# Altium footprint library STUSB1600AQTR.PcbLib: 3 footprints
Each footprint in its own frame and in the unit in brackets; x right, y up, seen from the top. Pads: shape width x height; smd on the part's side, far side on the other; paste and mask are expansions set on the pad; w line width, h text height; cw(c..) or ccw(c..) is an arc to the next point about the centre after c.
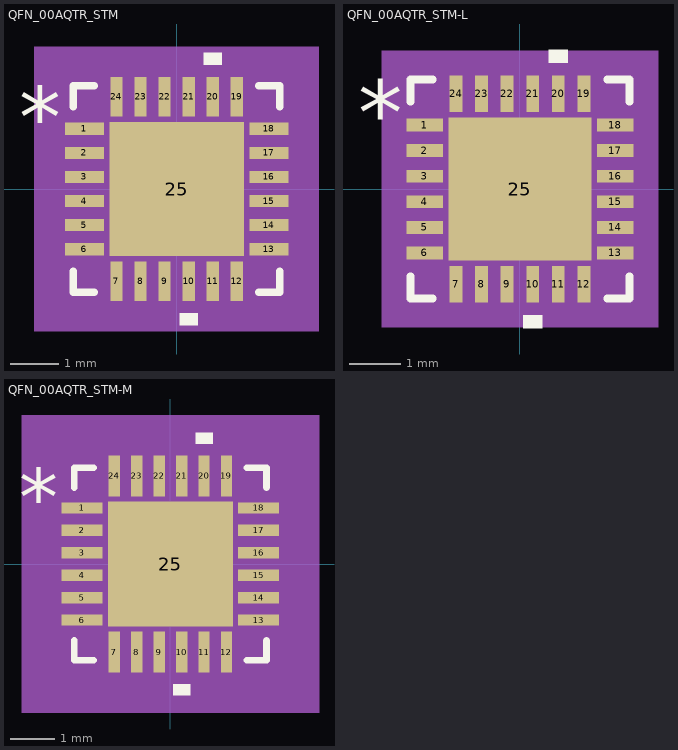
[diagram p0: the footprints below, top view; thin cyan lines are the x and y axes]

## QFN_00AQTR_STM [mil]
pads (25):
  rect 32x10 smd paste+0 mask+0: 1(-75.5,49.23) 2(-75.5,29.54) 3(-75.5,9.85) 4(-75.5,-9.85) 5(-75.5,-29.54) 6(-75.5,-49.23) 13(75.5,-49.23) 14(75.5,-29.54) 15(75.5,-9.85) 16(75.5,9.85) 17(75.5,29.54) 18(75.5,49.23)
  rect 10x32 smd paste+0 mask+0: 7(-49.23,-75.5) 8(-29.54,-75.5) 9(-9.85,-75.5) 10(9.85,-75.5) 11(29.54,-75.5) 12(49.23,-75.5) 19(49.23,75.5) 20(29.54,75.5) 21(9.85,75.5) 22(-9.85,75.5) 23(-29.54,75.5) 24(-49.23,75.5)
  rect 110x110 smd paste-54.5 mask+0: 25(0,0)
Top Overlay:
  region: 17.34,-101.5 2.35,-101.5 2.35,-111.5 17.34,-111.5
  region: 37.03,101.5 22.04,101.5 22.04,111.5 37.03,111.5
  lines w6: -84.5,-67.33 -84.5,-84.5 -67.33,-84.5 ; -84.5,67.33 -84.5,84.5 -67.33,84.5 ; 67.33,-84.5 84.5,-84.5 84.5,-67.33 ; 67.33,84.5 84.5,84.5 84.5,67.33
  text "*" at -129,34.07 h50
Top Paste:
  region: -3.94,51.06 -51.06,51.06 -51.06,3.94 -3.94,3.94
  region: -3.94,-3.94 -51.06,-3.94 -51.06,-51.06 -3.94,-51.06
  region: 51.06,51.06 3.94,51.06 3.94,3.94 51.06,3.94
  region: 51.06,-3.94 3.94,-3.94 3.94,-51.06 51.06,-51.06
Mechanical 5:
  region: 116.5,-116.5 -116.5,-116.5 -116.5,116.5 116.5,116.5
Mechanical 13:
  lines w1: -79.5,29.5 -29.5,79.5 ; -79.5,-79.5 79.5,-79.5 ; -79.5,-79.5 -79.5,79.5 ; -79.5,-79.5 -79.5,-79.5 ; -79.5,-55.23 -79.5,-43.23 ; -79.5,-55.23 -79.5,-43.23 ; -79.5,-55.23 -79.5,-55.23 ; -79.5,-43.23 -79.5,-43.23 ; -79.5,-35.53 -79.5,-23.54 ; -79.5,-35.53 -79.5,-23.54 ; -79.5,-35.53 -79.5,-35.53 ; -79.5,-23.54 -79.5,-23.54 ; -79.5,-15.85 -79.5,-3.85 ; -79.5,-15.85 -79.5,-3.85 ; -79.5,-15.85 -79.5,-15.85 ; -79.5,-3.85 -79.5,-3.85 ; -79.5,3.85 -79.5,15.85 ; -79.5,3.85 -79.5,15.85 ; -79.5,3.85 -79.5,3.85 ; -79.5,15.85 -79.5,15.85 ; -79.5,23.54 -79.5,35.53 ; -79.5,23.54 -79.5,35.53 ; -79.5,23.54 -79.5,23.54 ; -79.5,35.53 -79.5,35.53 ; -79.5,43.23 -79.5,55.23 ; -79.5,43.23 -79.5,55.23 ; -79.5,43.23 -79.5,43.23 ; -79.5,55.23 -79.5,55.23 ; -79.5,79.5 79.5,79.5 ; -79.5,79.5 -79.5,79.5 ; -55.23,-79.5 -43.23,-79.5 ; -55.23,-79.5 -55.23,-79.5 ; -55.23,-79.5 -43.23,-79.5 ; -55.23,79.5 -43.23,79.5 ; -55.23,79.5 -43.23,79.5 ; -55.23,79.5 -55.23,79.5 ; -43.23,-79.5 -43.23,-79.5 ; -43.23,79.5 -43.23,79.5 ; -35.53,-79.5 -23.54,-79.5 ; -35.53,-79.5 -35.53,-79.5 ; -35.53,-79.5 -23.54,-79.5 ; -35.53,79.5 -23.54,79.5 ; -35.53,79.5 -23.54,79.5 ; -35.53,79.5 -35.53,79.5 ; -23.54,-79.5 -23.54,-79.5 ; -23.54,79.5 -23.54,79.5 ; -15.85,-79.5 -3.85,-79.5 ; -15.85,-79.5 -15.85,-79.5 ; -15.85,-79.5 -3.85,-79.5 ; -15.85,79.5 -3.85,79.5 ; -15.85,79.5 -3.85,79.5 ; -15.85,79.5 -15.85,79.5 ; -3.85,-79.5 -3.85,-79.5 ; -3.85,79.5 -3.85,79.5 ; 3.85,-79.5 15.85,-79.5 ; 3.85,-79.5 3.85,-79.5 ; 3.85,-79.5 15.85,-79.5 ; 3.85,79.5 15.85,79.5 ; 3.85,79.5 15.85,79.5 ; 3.85,79.5 3.85,79.5 ; 15.85,-79.5 15.85,-79.5 ; 15.85,79.5 15.85,79.5 ; 23.54,-79.5 35.53,-79.5 ; 23.54,-79.5 23.54,-79.5 ; 23.54,-79.5 35.53,-79.5 ; 23.54,79.5 35.53,79.5 ; 23.54,79.5 35.53,79.5 ; 23.54,79.5 23.54,79.5 ; 35.53,-79.5 35.53,-79.5 ; 35.53,79.5 35.53,79.5 ; 43.23,-79.5 55.23,-79.5 ; 43.23,-79.5 43.23,-79.5 ; 43.23,-79.5 55.23,-79.5 ; 43.23,79.5 55.23,79.5 ; 43.23,79.5 55.23,79.5 ; 43.23,79.5 43.23,79.5 ; 55.23,-79.5 55.23,-79.5 ; 55.23,79.5 55.23,79.5 ; 79.5,-79.5 79.5,-79.5 ; 79.5,-79.5 79.5,79.5 ; 79.5,-55.23 79.5,-43.23 ; 79.5,-55.23 79.5,-55.23 ; 79.5,-55.23 79.5,-43.23 ; 79.5,-43.23 79.5,-43.23 ; 79.5,-35.53 79.5,-23.54 ; 79.5,-35.53 79.5,-35.53 ; 79.5,-35.53 79.5,-23.54 ; 79.5,-23.54 79.5,-23.54 ; 79.5,-15.85 79.5,-3.85 ; 79.5,-15.85 79.5,-15.85 ; 79.5,-15.85 79.5,-3.85 ; 79.5,-3.85 79.5,-3.85 ; 79.5,3.85 79.5,15.85 ; 79.5,3.85 79.5,3.85 ; 79.5,3.85 79.5,15.85 ; 79.5,15.85 79.5,15.85 ; 79.5,23.54 79.5,35.53 ; 79.5,23.54 79.5,23.54 ; 79.5,23.54 79.5,35.53 ; 79.5,35.53 79.5,35.53 ; 79.5,43.23 79.5,55.23 ; 79.5,43.23 79.5,43.23 ; 79.5,43.23 79.5,55.23 ; 79.5,55.23 79.5,55.23 ; 79.5,79.5 79.5,79.5
  text "*" at -72,34.07 h50
Mechanical 15:
  region: -64.22,-89.5 -89.5,-89.5 -89.5,-64.22 -101.5,-64.22 -101.5,64.22 -89.5,64.22 -89.5,89.5 -64.22,89.5 -64.22,101.5 64.22,101.5 64.22,89.5 89.5,89.5 89.5,64.22 101.5,64.22 101.5,-64.22 89.5,-64.22 89.5,-89.5 64.22,-89.5 64.22,-101.5 -64.22,-101.5
  lines w6: -101.5,-64.22 -89.5,-64.22 -89.5,-89.5 -64.22,-89.5 -64.22,-101.5 64.22,-101.5 64.22,-89.5 89.5,-89.5 89.5,-64.22 101.5,-64.22 101.5,64.22 89.5,64.22 89.5,89.5 64.22,89.5 64.22,101.5 -64.22,101.5 -64.22,89.5 -89.5,89.5 -89.5,64.22 -101.5,64.22 -101.5,-64.22
3D body "QFN_00AQTR_STM.step": height 39.09, standoff 0, extent -79.49,-79.49 79.49,79.49

## QFN_00AQTR_STM-L [mil]
pads (25):
  rect 28x10 smd paste+0 mask+0: 1(-73.5,49.23) 2(-73.5,29.54) 3(-73.5,9.85) 4(-73.5,-9.85) 5(-73.5,-29.54) 6(-73.5,-49.23) 13(73.5,-49.23) 14(73.5,-29.54) 15(73.5,-9.85) 16(73.5,9.85) 17(73.5,29.54) 18(73.5,49.23)
  rect 10x28 smd paste+0 mask+0: 7(-49.23,-73.5) 8(-29.54,-73.5) 9(-9.85,-73.5) 10(9.85,-73.5) 11(29.54,-73.5) 12(49.23,-73.5) 19(49.23,73.5) 20(29.54,73.5) 21(9.85,73.5) 22(-9.85,73.5) 23(-29.54,73.5) 24(-49.23,73.5)
  rect 110x110 smd paste-54.5 mask+0: 25(0,0)
Top Overlay:
  region: 17.34,-97.5 2.35,-97.5 2.35,-107.5 17.34,-107.5
  region: 37.03,97.5 22.04,97.5 22.04,107.5 37.03,107.5
  lines w6: -84.5,-67.33 -84.5,-84.5 -67.33,-84.5 ; -84.5,67.33 -84.5,84.5 -67.33,84.5 ; 67.33,-84.5 84.5,-84.5 84.5,-67.33 ; 67.33,84.5 84.5,84.5 84.5,67.33
  text "*" at -125,34.07 h50
Top Paste:
  region: -3.94,51.06 -51.06,51.06 -51.06,3.94 -3.94,3.94
  region: -3.94,-3.94 -51.06,-3.94 -51.06,-51.06 -3.94,-51.06
  region: 51.06,51.06 3.94,51.06 3.94,3.94 51.06,3.94
  region: 51.06,-3.94 3.94,-3.94 3.94,-51.06 51.06,-51.06
Mechanical 5:
  region: 106.5,-106.5 -106.5,-106.5 -106.5,106.5 106.5,106.5
Mechanical 13:
  lines w1: -79.5,29.5 -29.5,79.5 ; -79.5,-79.5 79.5,-79.5 ; -79.5,-79.5 -79.5,79.5 ; -79.5,-79.5 -79.5,-79.5 ; -79.5,-55.23 -79.5,-43.23 ; -79.5,-55.23 -79.5,-43.23 ; -79.5,-55.23 -79.5,-55.23 ; -79.5,-43.23 -79.5,-43.23 ; -79.5,-35.53 -79.5,-23.54 ; -79.5,-35.53 -79.5,-23.54 ; -79.5,-35.53 -79.5,-35.53 ; -79.5,-23.54 -79.5,-23.54 ; -79.5,-15.85 -79.5,-3.85 ; -79.5,-15.85 -79.5,-3.85 ; -79.5,-15.85 -79.5,-15.85 ; -79.5,-3.85 -79.5,-3.85 ; -79.5,3.85 -79.5,15.85 ; -79.5,3.85 -79.5,15.85 ; -79.5,3.85 -79.5,3.85 ; -79.5,15.85 -79.5,15.85 ; -79.5,23.54 -79.5,35.53 ; -79.5,23.54 -79.5,35.53 ; -79.5,23.54 -79.5,23.54 ; -79.5,35.53 -79.5,35.53 ; -79.5,43.23 -79.5,55.23 ; -79.5,43.23 -79.5,55.23 ; -79.5,43.23 -79.5,43.23 ; -79.5,55.23 -79.5,55.23 ; -79.5,79.5 79.5,79.5 ; -79.5,79.5 -79.5,79.5 ; -55.23,-79.5 -43.23,-79.5 ; -55.23,-79.5 -55.23,-79.5 ; -55.23,-79.5 -43.23,-79.5 ; -55.23,79.5 -43.23,79.5 ; -55.23,79.5 -43.23,79.5 ; -55.23,79.5 -55.23,79.5 ; -43.23,-79.5 -43.23,-79.5 ; -43.23,79.5 -43.23,79.5 ; -35.53,-79.5 -23.54,-79.5 ; -35.53,-79.5 -35.53,-79.5 ; -35.53,-79.5 -23.54,-79.5 ; -35.53,79.5 -23.54,79.5 ; -35.53,79.5 -23.54,79.5 ; -35.53,79.5 -35.53,79.5 ; -23.54,-79.5 -23.54,-79.5 ; -23.54,79.5 -23.54,79.5 ; -15.85,-79.5 -3.85,-79.5 ; -15.85,-79.5 -15.85,-79.5 ; -15.85,-79.5 -3.85,-79.5 ; -15.85,79.5 -3.85,79.5 ; -15.85,79.5 -3.85,79.5 ; -15.85,79.5 -15.85,79.5 ; -3.85,-79.5 -3.85,-79.5 ; -3.85,79.5 -3.85,79.5 ; 3.85,-79.5 15.85,-79.5 ; 3.85,-79.5 3.85,-79.5 ; 3.85,-79.5 15.85,-79.5 ; 3.85,79.5 15.85,79.5 ; 3.85,79.5 15.85,79.5 ; 3.85,79.5 3.85,79.5 ; 15.85,-79.5 15.85,-79.5 ; 15.85,79.5 15.85,79.5 ; 23.54,-79.5 35.53,-79.5 ; 23.54,-79.5 23.54,-79.5 ; 23.54,-79.5 35.53,-79.5 ; 23.54,79.5 35.53,79.5 ; 23.54,79.5 35.53,79.5 ; 23.54,79.5 23.54,79.5 ; 35.53,-79.5 35.53,-79.5 ; 35.53,79.5 35.53,79.5 ; 43.23,-79.5 55.23,-79.5 ; 43.23,-79.5 43.23,-79.5 ; 43.23,-79.5 55.23,-79.5 ; 43.23,79.5 55.23,79.5 ; 43.23,79.5 55.23,79.5 ; 43.23,79.5 43.23,79.5 ; 55.23,-79.5 55.23,-79.5 ; 55.23,79.5 55.23,79.5 ; 79.5,-79.5 79.5,-79.5 ; 79.5,-79.5 79.5,79.5 ; 79.5,-55.23 79.5,-43.23 ; 79.5,-55.23 79.5,-55.23 ; 79.5,-55.23 79.5,-43.23 ; 79.5,-43.23 79.5,-43.23 ; 79.5,-35.53 79.5,-23.54 ; 79.5,-35.53 79.5,-35.53 ; 79.5,-35.53 79.5,-23.54 ; 79.5,-23.54 79.5,-23.54 ; 79.5,-15.85 79.5,-3.85 ; 79.5,-15.85 79.5,-15.85 ; 79.5,-15.85 79.5,-3.85 ; 79.5,-3.85 79.5,-3.85 ; 79.5,3.85 79.5,15.85 ; 79.5,3.85 79.5,3.85 ; 79.5,3.85 79.5,15.85 ; 79.5,15.85 79.5,15.85 ; 79.5,23.54 79.5,35.53 ; 79.5,23.54 79.5,23.54 ; 79.5,23.54 79.5,35.53 ; 79.5,35.53 79.5,35.53 ; 79.5,43.23 79.5,55.23 ; 79.5,43.23 79.5,43.23 ; 79.5,43.23 79.5,55.23 ; 79.5,55.23 79.5,55.23 ; 79.5,79.5 79.5,79.5
  text "*" at -72,34.07 h50
Mechanical 15:
  region: -58.23,-83.5 -83.5,-83.5 -83.5,-58.23 -91.5,-58.23 -91.5,58.23 -83.5,58.23 -83.5,83.5 -58.23,83.5 -58.23,91.5 58.23,91.5 58.23,83.5 83.5,83.5 83.5,58.23 91.5,58.23 91.5,-58.23 83.5,-58.23 83.5,-83.5 58.23,-83.5 58.23,-91.5 -58.23,-91.5
  lines w6: -91.5,-58.23 -83.5,-58.23 -83.5,-83.5 -58.23,-83.5 -58.23,-91.5 58.23,-91.5 58.23,-83.5 83.5,-83.5 83.5,-58.23 91.5,-58.23 91.5,58.23 83.5,58.23 83.5,83.5 58.23,83.5 58.23,91.5 -58.23,91.5 -58.23,83.5 -83.5,83.5 -83.5,58.23 -91.5,58.23 -91.5,-58.23
3D body "QFN_00AQTR_STM.step": height 39.09, standoff 0, extent -79.49,-79.49 79.49,79.49

## QFN_00AQTR_STM-M [mil]
pads (25):
  rect 36x10 smd paste+0 mask+0: 1(-77.5,49.23) 2(-77.5,29.54) 3(-77.5,9.85) 4(-77.5,-9.85) 5(-77.5,-29.54) 6(-77.5,-49.23) 13(77.5,-49.23) 14(77.5,-29.54) 15(77.5,-9.85) 16(77.5,9.85) 17(77.5,29.54) 18(77.5,49.23)
  rect 10x36 smd paste+0 mask+0: 7(-49.23,-77.5) 8(-29.54,-77.5) 9(-9.85,-77.5) 10(9.85,-77.5) 11(29.54,-77.5) 12(49.23,-77.5) 19(49.23,77.5) 20(29.54,77.5) 21(9.85,77.5) 22(-9.85,77.5) 23(-29.54,77.5) 24(-49.23,77.5)
  rect 110x110 smd paste-54.5 mask+0: 25(0,0)
Top Overlay:
  region: 17.34,-105.5 2.35,-105.5 2.35,-115.5 17.34,-115.5
  region: 37.03,105.5 22.04,105.5 22.04,115.5 37.03,115.5
  lines w6: -84.5,-67.33 -84.5,-84.5 -67.33,-84.5 ; -84.5,67.33 -84.5,84.5 -67.33,84.5 ; 67.33,-84.5 84.5,-84.5 84.5,-67.33 ; 67.33,84.5 84.5,84.5 84.5,67.33
  text "*" at -133,34.07 h50
Top Paste:
  region: -3.94,51.06 -51.06,51.06 -51.06,3.94 -3.94,3.94
  region: -3.94,-3.94 -51.06,-3.94 -51.06,-51.06 -3.94,-51.06
  region: 51.06,51.06 3.94,51.06 3.94,3.94 51.06,3.94
  region: 51.06,-3.94 3.94,-3.94 3.94,-51.06 51.06,-51.06
Mechanical 5:
  region: 130.5,-130.5 -130.5,-130.5 -130.5,130.5 130.5,130.5
Mechanical 13:
  lines w1: -79.5,29.5 -29.5,79.5 ; -79.5,-79.5 79.5,-79.5 ; -79.5,-79.5 -79.5,79.5 ; -79.5,-79.5 -79.5,-79.5 ; -79.5,-55.23 -79.5,-43.23 ; -79.5,-55.23 -79.5,-43.23 ; -79.5,-55.23 -79.5,-55.23 ; -79.5,-43.23 -79.5,-43.23 ; -79.5,-35.53 -79.5,-23.54 ; -79.5,-35.53 -79.5,-23.54 ; -79.5,-35.53 -79.5,-35.53 ; -79.5,-23.54 -79.5,-23.54 ; -79.5,-15.85 -79.5,-3.85 ; -79.5,-15.85 -79.5,-3.85 ; -79.5,-15.85 -79.5,-15.85 ; -79.5,-3.85 -79.5,-3.85 ; -79.5,3.85 -79.5,15.85 ; -79.5,3.85 -79.5,15.85 ; -79.5,3.85 -79.5,3.85 ; -79.5,15.85 -79.5,15.85 ; -79.5,23.54 -79.5,35.53 ; -79.5,23.54 -79.5,35.53 ; -79.5,23.54 -79.5,23.54 ; -79.5,35.53 -79.5,35.53 ; -79.5,43.23 -79.5,55.23 ; -79.5,43.23 -79.5,55.23 ; -79.5,43.23 -79.5,43.23 ; -79.5,55.23 -79.5,55.23 ; -79.5,79.5 79.5,79.5 ; -79.5,79.5 -79.5,79.5 ; -55.23,-79.5 -43.23,-79.5 ; -55.23,-79.5 -55.23,-79.5 ; -55.23,-79.5 -43.23,-79.5 ; -55.23,79.5 -43.23,79.5 ; -55.23,79.5 -43.23,79.5 ; -55.23,79.5 -55.23,79.5 ; -43.23,-79.5 -43.23,-79.5 ; -43.23,79.5 -43.23,79.5 ; -35.53,-79.5 -23.54,-79.5 ; -35.53,-79.5 -35.53,-79.5 ; -35.53,-79.5 -23.54,-79.5 ; -35.53,79.5 -23.54,79.5 ; -35.53,79.5 -23.54,79.5 ; -35.53,79.5 -35.53,79.5 ; -23.54,-79.5 -23.54,-79.5 ; -23.54,79.5 -23.54,79.5 ; -15.85,-79.5 -3.85,-79.5 ; -15.85,-79.5 -15.85,-79.5 ; -15.85,-79.5 -3.85,-79.5 ; -15.85,79.5 -3.85,79.5 ; -15.85,79.5 -3.85,79.5 ; -15.85,79.5 -15.85,79.5 ; -3.85,-79.5 -3.85,-79.5 ; -3.85,79.5 -3.85,79.5 ; 3.85,-79.5 15.85,-79.5 ; 3.85,-79.5 3.85,-79.5 ; 3.85,-79.5 15.85,-79.5 ; 3.85,79.5 15.85,79.5 ; 3.85,79.5 15.85,79.5 ; 3.85,79.5 3.85,79.5 ; 15.85,-79.5 15.85,-79.5 ; 15.85,79.5 15.85,79.5 ; 23.54,-79.5 35.53,-79.5 ; 23.54,-79.5 23.54,-79.5 ; 23.54,-79.5 35.53,-79.5 ; 23.54,79.5 35.53,79.5 ; 23.54,79.5 35.53,79.5 ; 23.54,79.5 23.54,79.5 ; 35.53,-79.5 35.53,-79.5 ; 35.53,79.5 35.53,79.5 ; 43.23,-79.5 55.23,-79.5 ; 43.23,-79.5 43.23,-79.5 ; 43.23,-79.5 55.23,-79.5 ; 43.23,79.5 55.23,79.5 ; 43.23,79.5 55.23,79.5 ; 43.23,79.5 43.23,79.5 ; 55.23,-79.5 55.23,-79.5 ; 55.23,79.5 55.23,79.5 ; 79.5,-79.5 79.5,-79.5 ; 79.5,-79.5 79.5,79.5 ; 79.5,-55.23 79.5,-43.23 ; 79.5,-55.23 79.5,-55.23 ; 79.5,-55.23 79.5,-43.23 ; 79.5,-43.23 79.5,-43.23 ; 79.5,-35.53 79.5,-23.54 ; 79.5,-35.53 79.5,-35.53 ; 79.5,-35.53 79.5,-23.54 ; 79.5,-23.54 79.5,-23.54 ; 79.5,-15.85 79.5,-3.85 ; 79.5,-15.85 79.5,-15.85 ; 79.5,-15.85 79.5,-3.85 ; 79.5,-3.85 79.5,-3.85 ; 79.5,3.85 79.5,15.85 ; 79.5,3.85 79.5,3.85 ; 79.5,3.85 79.5,15.85 ; 79.5,15.85 79.5,15.85 ; 79.5,23.54 79.5,35.53 ; 79.5,23.54 79.5,23.54 ; 79.5,23.54 79.5,35.53 ; 79.5,35.53 79.5,35.53 ; 79.5,43.23 79.5,55.23 ; 79.5,43.23 79.5,43.23 ; 79.5,43.23 79.5,55.23 ; 79.5,55.23 79.5,55.23 ; 79.5,79.5 79.5,79.5
  text "*" at -72,34.07 h50
Mechanical 15:
  region: -74.22,-99.5 -99.5,-99.5 -99.5,-74.22 -115.5,-74.22 -115.5,74.22 -99.5,74.22 -99.5,99.5 -74.22,99.5 -74.22,115.5 74.22,115.5 74.22,99.5 99.5,99.5 99.5,74.22 115.5,74.22 115.5,-74.22 99.5,-74.22 99.5,-99.5 74.22,-99.5 74.22,-115.5 -74.22,-115.5
  lines w6: -115.5,-74.22 -99.5,-74.22 -99.5,-99.5 -74.22,-99.5 -74.22,-115.5 74.22,-115.5 74.22,-99.5 99.5,-99.5 99.5,-74.22 115.5,-74.22 115.5,74.22 99.5,74.22 99.5,99.5 74.22,99.5 74.22,115.5 -74.22,115.5 -74.22,99.5 -99.5,99.5 -99.5,74.22 -115.5,74.22 -115.5,-74.22
3D body "QFN_00AQTR_STM.step": height 39.09, standoff 0, extent -79.49,-79.49 79.49,79.49